# Altium footprint library USON.PCBLIB: 3 footprints
Each footprint in its own frame and in the unit in brackets; x right, y up, seen from the top. Pads: shape width x height; smd on the part's side, far side on the other; paste and mask are expansions set on the pad; w line width, h text height; cw(c..) or ccw(c..) is an arc to the next point about the centre after c.
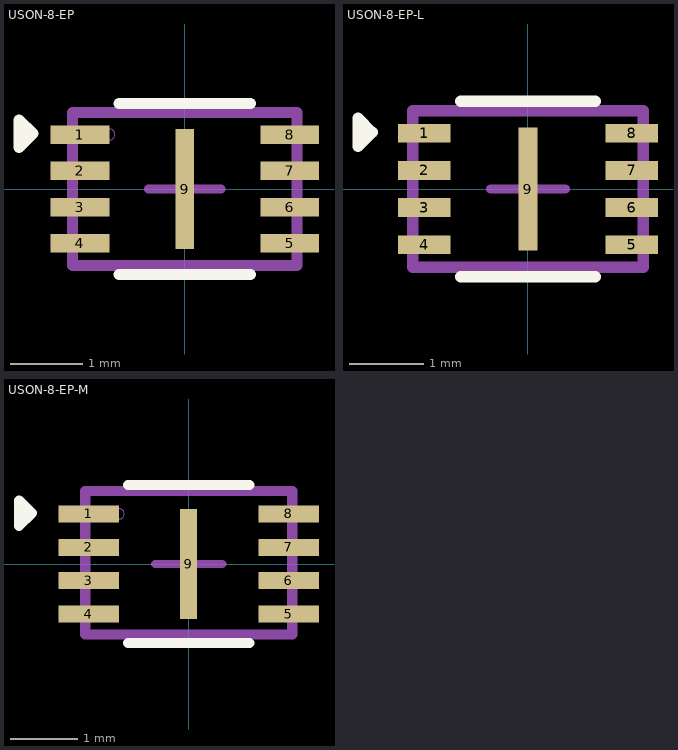
[diagram p0: the footprints below, top view; thin cyan lines are the x and y axes]

## USON-8-EP [mm]
pads (9):
  rect 0.808x0.255 smd paste+0: 1(-1.445,0.75) 2(-1.445,0.25) 3(-1.445,-0.25) 4(-1.445,-0.75) 5(1.445,-0.75) 6(1.445,-0.25) 7(1.445,0.25) 8(1.445,0.75)
  rect 0.254x1.651 smd paste+0: 9(0,0)
Top Overlay:
  lines w0.152: -2.286,0.762 -2.095,0.762 ; -0.905,-1.181 0.905,-1.181 ; -0.905,1.181 0.905,1.181 ; -2.095,0.762 -2.286,0.953 -2.286,0.572 -2.095,0.762
Top 3D:
  circle w0: c-1.041,0.75 r0.076
Top 元件外形:
  lines w0.152: -1.549,-1.054 1.549,-1.054 1.549,1.054 -1.549,1.054 -1.549,-1.054
Top 中心点:
  lines w0.127: -0.5,0 0.5,0 ; 0,-0.5 0,0.5
3D body "USON-8_UX_2x3x0p6_WIN.step": height 0.61, standoff 0, extent -1.549,-1.054 1.549,1.054

## USON-8-EP-L [mm]
pads (9):
  rect 0.708x0.255 smd paste+0: 1(-1.395,0.75) 2(-1.395,0.25) 3(-1.395,-0.25) 4(-1.395,-0.75) 5(1.395,-0.75) 6(1.395,-0.25) 7(1.395,0.25) 8(1.395,0.75)
  rect 0.254x1.651 smd paste+0: 9(0,0)
Top Overlay:
  lines w0.152: -2.286,0.762 -2.095,0.762 ; -0.905,-1.181 0.905,-1.181 ; -0.905,1.181 0.905,1.181 ; -2.095,0.762 -2.286,0.953 -2.286,0.572 -2.095,0.762
Top 元件外形:
  lines w0.152: -1.549,-1.054 1.549,-1.054 1.549,1.054 -1.549,1.054 -1.549,-1.054
Top 中心点:
  lines w0.127: -0.5,0 0.5,0 ; 0,-0.5 0,0.5
3D body "USON-8_UX_2x3x0p6_WIN.step": height 0.61, standoff 0, extent -1.549,-1.054 1.549,1.054

## USON-8-EP-M [mm]
pads (9):
  rect 0.908x0.255 smd paste+0: 1(-1.495,0.75) 2(-1.495,0.25) 3(-1.495,-0.25) 4(-1.495,-0.75) 5(1.495,-0.75) 6(1.495,-0.25) 7(1.495,0.25) 8(1.495,0.75)
  rect 0.254x1.651 smd paste+0: 9(0,0)
Top Overlay:
  lines w0.152: -2.54,0.762 -2.349,0.762 ; -0.905,-1.181 0.905,-1.181 ; -0.905,1.181 0.905,1.181 ; -2.349,0.762 -2.54,0.572 -2.54,0.953 -2.349,0.762
Top 3D:
  circle w0: c-1.041,0.75 r0.076
Top 元件外形:
  lines w0.152: -1.549,1.054 -1.549,-1.054 1.549,-1.054 1.549,1.054 ; -1.549,1.092 1.549,1.092
Top 中心点:
  lines w0.127: -0.5,0 0.5,0 ; 0,-0.5 0,0.5
3D body "USON-8_UX_2x3x0p6_WIN.step": height 0.61, standoff 0, extent -1.549,-1.054 1.549,1.054